# EAGLE library part CON-ZX62R-B-5P (library BreakoutBoard)
ZX62R-B-5P Hirose ZX Series Micro-B USB receptacle (right angle, top mount, SMT) Source: http://www.hirose.co.jp/cataloge_hp/e24200011.pdf http://media.digikey.com/PDF/Data%20Sheets/Hirose%20PDFs/ZX62R-B-5P.pdf
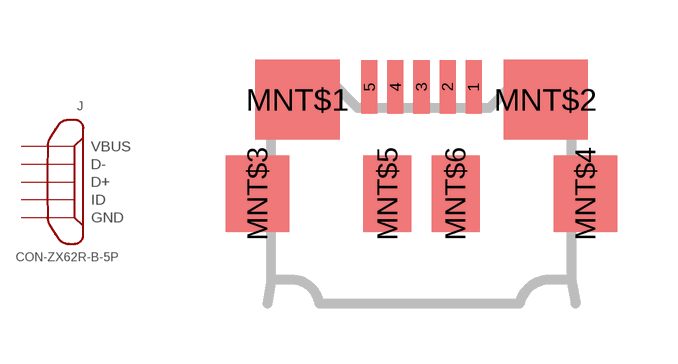
[diagram p4: symbol with the pads of ZX62R-B-5P; footprint ZX62R-B-5P]

Designator prefix J

## CON-ZX62R-B-5P (DIGI-KEY#: H11574CT-ND; MF: Hirose; MPN: ZX62R-B-5P; TEMINATION-TYPE: Right-angle SMT, Horizontal)  [ZX62R-B-5P]
1  VBUS  pwr
2  D-
3  D+
4  ID  pas
5  GND  pwr
MNT$1  MNT  nc
MNT$2  MNT  nc
MNT$3  MNT  nc
MNT$4  MNT  nc
MNT$5  MNT  nc
MNT$6  MNT  nc

## Footprint ZX62R-B-5P (pad centres in mm)
ZX62R-B-5P Hirose ZX Series Micro-B USB receptacle (right angle, top mount, SMT) http://www.hirose.co.jp/cataloge_hp/e24200011.pdf http://media.digikey.com/PDF/Data%20Sheets/Hirose%20PDFs/ZX62R-B-5P.pdf
smd 0.4 x 1.35: 1 1.3,2.675; 2 0.65,2.675; 3 0,2.675; 4 -0.65,2.675; 5 -1.3,2.675
smd 2.1 x 2: MNT$1 -3.1,2.35; MNT$2 3.1,2.35
smd 1.6 x 1.9: MNT$3 -4.1,0; MNT$4 4.1,0
smd 1.2 x 1.9: MNT$5 -0.85,0; MNT$6 0.85,0